# EAGLE library part ADL5530 (library OSSIdonghee)
ADL5530 IF Gain Block Fixed gain: 16.dB Operation: 0~1000Mhz Internally matched input and output to 50 Ω Power supply: 3V or 5V 110 mA power supply current
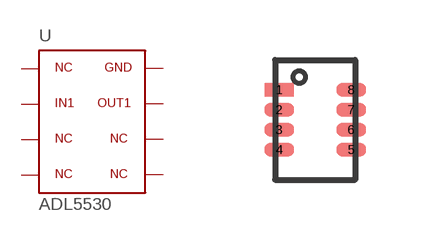
[diagram p21: symbol with the pads of LFCSP8_CP; footprint LFCSP8_CP]

Designator prefix U

## ADL5530  [LFCSP8_CP]
1  1  nc
2  2
3  3  nc
4  4  nc
5  5  nc
6  6  nc
7  7  out
8  8  pwr

## Footprint LFCSP8_CP (pad centres in mm)
8-Lead Lead Frame Chip Scale Package LFCSP_WD 2 mm × 2 mm Body, Very Very Thin, Dual Lead Source: http://www.analog.com/static/imported-files/data_sheets/ADA4075-2.pdf Plase refer to datasheet for recommend ground pattern!!
smd 0.73 x 0.33: 1 -0.9,0.75; 2 -0.9,0.25; 3 -0.9,-0.25; 4 -0.9,-0.75; 5 0.9,-0.75; 6 0.9,-0.25; 7 0.9,0.25; 8 0.9,0.75